# Altium schematic symbol library STM32L071CXTX.SchLib: 1 symbol
Pins are listed as number, name and electrical type; pins without a type are passive.

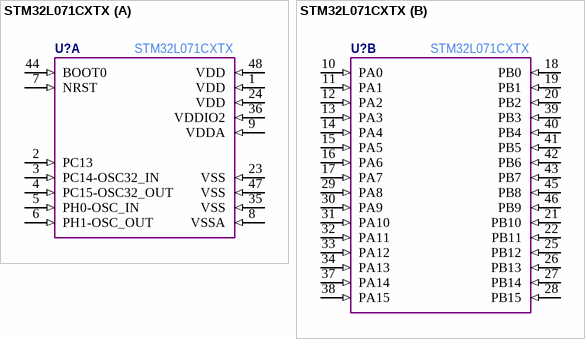
[diagram p0: symbol STM32L071CXTX]

## STM32L071CXTX
designator U?  Manufacturer Part Number: STM32L071CXTX  (hidden comment: *)
part A pins: 1 VDD (in), 2 PC13 (in), 3 PC14-OSC32_IN (in), 4 PC15-OSC32_OUT (in), 5 PH0-OSC_IN (in), 6 PH1-OSC_OUT (in), 7 NRST (in), 8 VSSA (in), 9 VDDA (in), 23 VSS (in), 24 VDD (in), 35 VSS (in), 36 VDDIO2 (in), 44 BOOT0 (in), 47 VSS (in), 48 VDD (in)
part B pins: 10 PA0 (in), 11 PA1 (in), 12 PA2 (in), 13 PA3 (in), 14 PA4 (in), 15 PA5 (in), 16 PA6 (in), 17 PA7 (in), 18 PB0 (in), 19 PB1 (in), 20 PB2 (in), 21 PB10 (in), 22 PB11 (in), 25 PB12 (in), 26 PB13 (in), 27 PB14 (in), 28 PB15 (in), 29 PA8 (in), 30 PA9 (in), 31 PA10 (in), 32 PA11 (in), 33 PA12 (in), 34 PA13 (in), 37 PA14 (in), 38 PA15 (in), 39 PB3 (in), 40 PB4 (in), 41 PB5 (in), 42 PB6 (in), 43 PB7 (in), 45 PB8 (in), 46 PB9 (in)